# Altium integrated library s7cas_lib2023.intlib: 111 symbols (part 2 of 2)
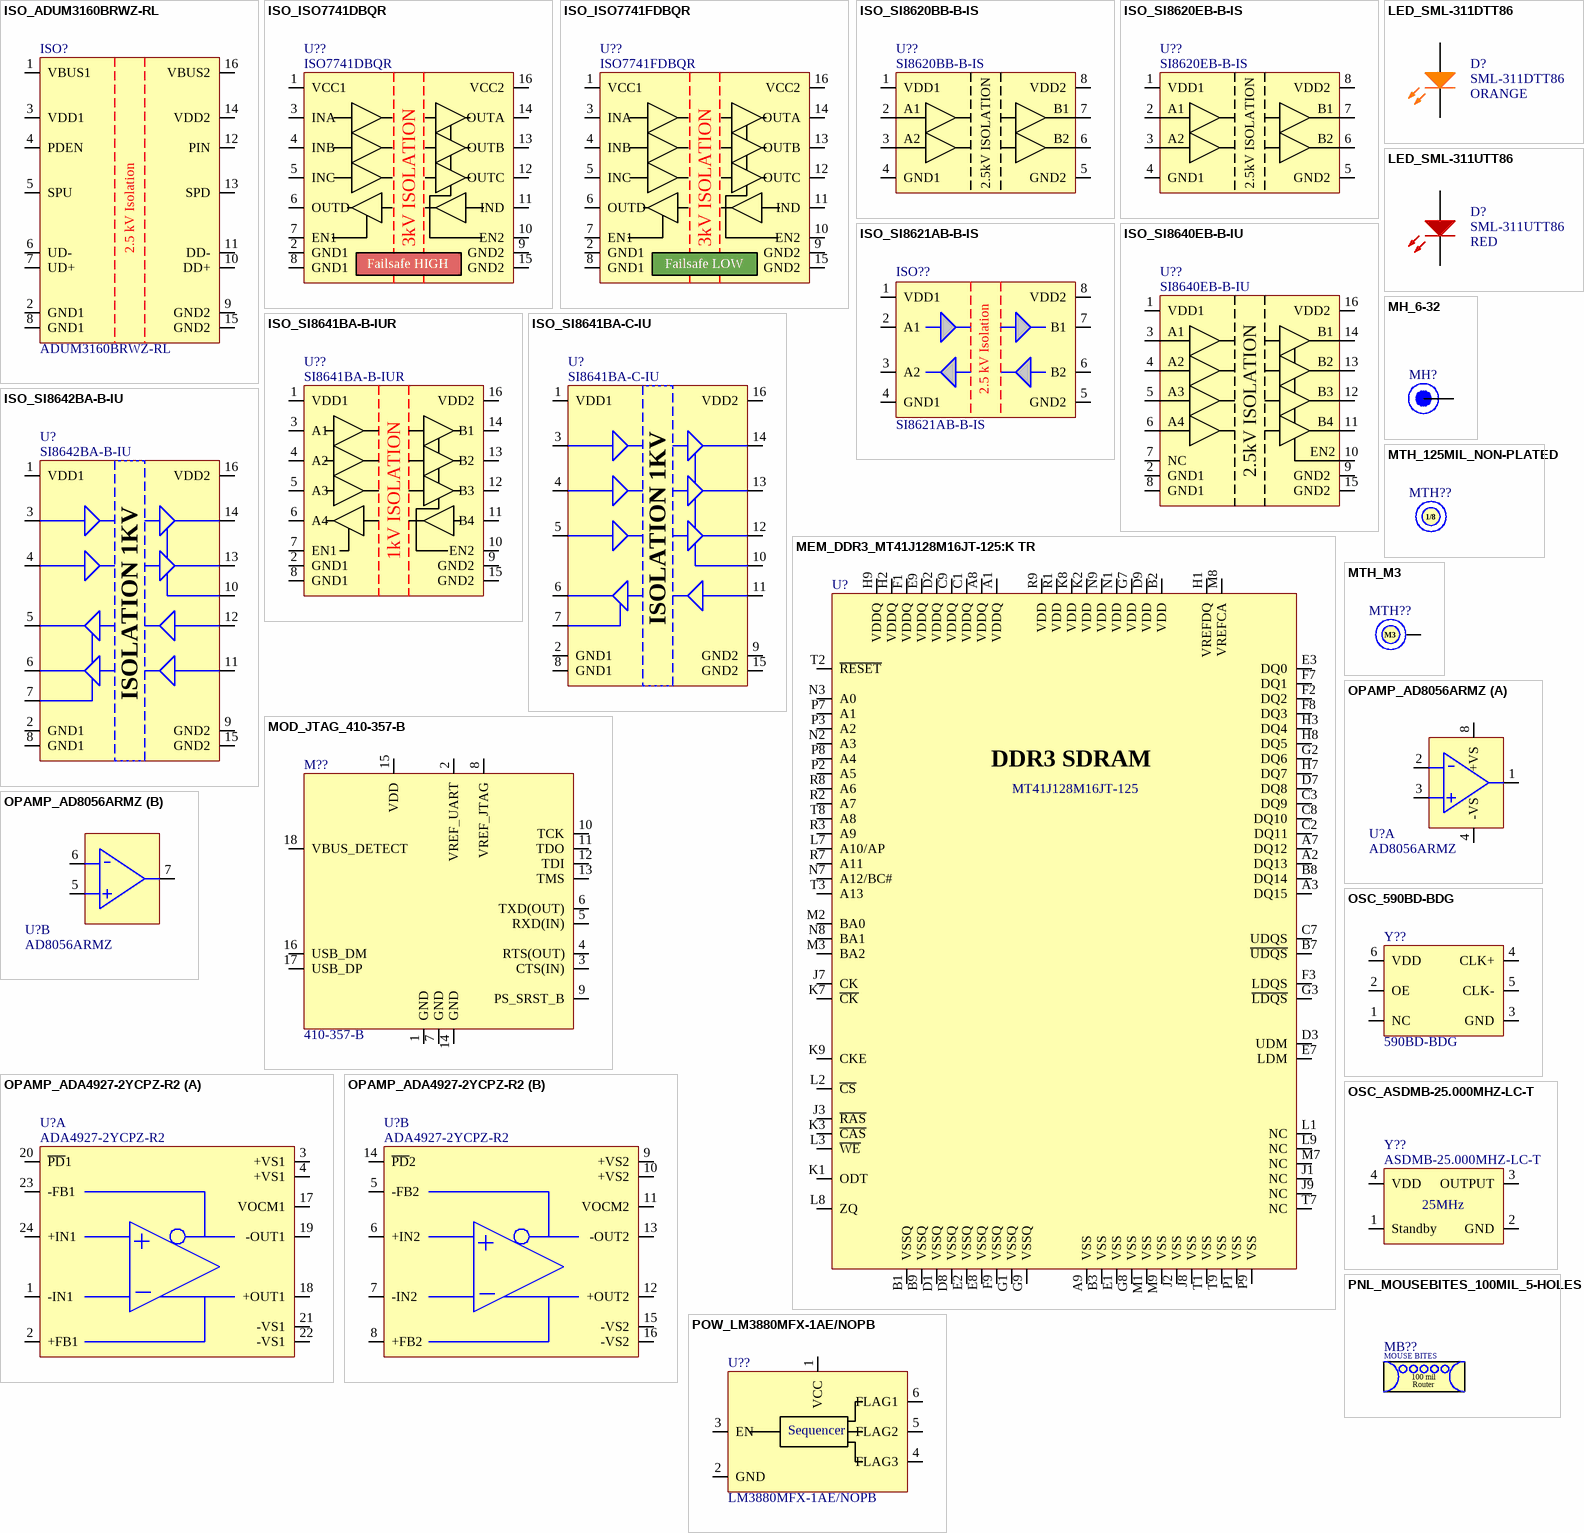
[diagram p6: symbols ISO_ADUM3160BRWZ-RL to POW_LM3880MFX-1AE/NOPB]

## MTH_M3
designator MTH??, comment M3  (no BOM)
MTH - MOUNTING HOLE M3 PLATED - M3; GRAMS Lib Spec: 2.8; Magnetic Material: NO; Cryo: UNKNOWN; Value: *; Tolerance: *; Voltage Rating: *; Current Rating: *; Power Max: *; HelpURL: https://littlemachineshop.com/images/gallery/PDF/TapDrillSizes.pdf; CreatedBy/Date: Jonathan Bouchard 2018-07-23; VerifiedBy: Arnaud Samson 23-07-18; Temperature: *; Package: M3; Manufacturer #1: *; Manufacturer #2: *; Note: *; Assembly Type: NONE; Part Number #2: *; Part Number #1: *; Polarized: *; Supplier 1: *; Supplier Part Number 1: *
footprint MTH_M3 (Mounting Hole Metric M3)
pins: 1

## OPAMP_AD8056ARMZ
designator U?, comment AD8056ARMZ
OPAMP - VFB 300MHZ - 8MSOP; Voltage: 8 V ~ 12 V, ±4 V ~ 6 V; Current: 60mA; Mfg: Analog Devices; Power: *; Mfg Part Number: AD8056ARMZ; HelpURL: http://www.analog.com/media/en/technical-documentation/data-sheets/AD8055_8056.pdf; CreatedBy: Jonathan Bouchard; Temperature: -40°C ~ 125°C; Value: *; Precision: *; Package: MSOP-8; Supplier 1: Digikey; Supplier Part Number 1: AD8056ARMZ-REEL7CT-ND
footprint OPAMP_AD8056ARMZ (SOP, 8-Leads, Body 3x3mm, Pitch 0.65mm, IPC Medium Density)
part A pins: 1 OUT1, 2 -IN1, 3 +IN1, 4 -VS, 8 +VS
part B pins: 5 +IN2, 6 -IN2, 7 OUT2

## OPAMP_ADA4927-2YCPZ-R2
designator U?, comment ADA4927-2YCPZ-R2
OPAMP - CFA 2.3GHZ - QFN-24; Voltage: 4.5 V ~ 11 V, ±2.25 V ~ 5.5 V; Current: 65mA; Mfg: Analog Devices; Power: *; Mfg Part Number: ADA4927-2YCPZ-R2; HelpURL: http://www.analog.com/media/en/technical-documentation/data-sheets/ADA4927-1_4927-2.pdf; CreatedBy: Jonathan Bouchard; Temperature: -40°C ~ 105°C; Value: *; Precision: *; Package: QFN-24; Supplier 1: Digikey; Supplier Part Number 1: ADA4927-2YCPZ-R2CT-ND
footprint OPAMP_ADA4927-2YCPZ-R2 (QFN, 24-Leads, Body 4,00x4,00mm, Pitch 0,50mm, Thermal Pad 2,10x2,10mm, IPC Low Density)
part A pins: 1 -IN1, 2 +FB1, 3 +VS1, 4 +VS1, 17 VOCM1, 18 +OUT1, 19 -OUT1, 20 ~{PD}1, 21 -VS1, 22 -VS1, 23 -FB1, 24 +IN1
part B pins: 5 -FB2, 6 +IN2, 7 -IN2, 8 +FB2, 9 +VS2, 10 +VS2, 11 VOCM2, 12 +OUT2, 13 -OUT2, 14 ~{PD}2, 15 -VS2, 16 -VS2

## OSC_590BD-BDG
designator Y??, comment 590BD-BDG
TIM - OSC PROG 125MHz ~ 214.999MHz LVDS 3.3V 7PPM EN/DS - 6-SMD; Manufacturer #1: Silicon Labs; Current Rating: 100 mA (supply); Note: Spécifié la fréquence lors de la commande; Voltage rating: 3.3V (supply); Polarized: Yes; Value: ±7ppm (freq Stability), ±20ppm (freq stability total); Magnetic Material: UNKNOWN; GRAMS Lib Spec: 2.8; Manufacturer #2: *; Power Max: *; Part Number #1: 590BD-BDG; Part Number #2: *; HelpURL: https://www.silabs.com/documents/public/data-sheets/Si590-591.pdf; Supplier 1: Digi-Key; Supplier Part Number 1: 590BD-BDG-ND; Assembly Type: SMD; Temperature: -40°C ~ 85°C; Package: 6-SMD; CreatedBy/Date: from 590BD-CDG; Tolerance: *; VerifiedBy: Caroline Paulin / 3/10/2019; Cryo: UNKNOWN
footprint OSC_590BD-BDG (5x7mm)
pins: 1 NC, 2 OE, 3 GND, 4 CLK+, 5 CLK-, 6 VDD

## OSC_ASDMB-25.000MHZ-LC-T
designator Y??, comment ASDMB-25.000MHZ-LC-T
OSC - 25MHz XO (Standard) LVCMOS - 4-SMD, No Lead; Manufacturer #1: Abracon LLC; Tolerance: ±50ppm; Voltage Rating: 1.8V ~ 3.3V; GRAMS Lib Spec: 2.8; Magnetic Material: Unknown; Polarized: Yes; Value: 25MHz; Current Rating: *; Power Max: *; HelpURL: https://abracon.com/Oscillators/ASDMB.pdf; CreatedBy/Date: Joël Lemay 2019-03-29; VerifiedBy: C. Paulin - 29 mai 2019; Temperature: -40°C ~ +85°C; Package: 4-SMD, No Lead; Manufacturer #2: *; Note: *; Assembly Type: SMD; Part Number #2: *; Part Number #1: ASDMB-25.000MHZ-LC-T; Supplier 1: Digi-Key; Supplier Part Number 1: 535-11730-1-ND; Cryo: UNKNOWN
footprint OSC_ASDMB-25.000MHZ-LC-T
pins: 1 Standby, 2 GND, 3 OUTPUT, 4 VDD

## PNL_MOUSEBITES_100MIL_5-HOLES
designator MB??, comment MOUSE BITES  (no BOM)
PNL - MOUSE BITES 100 MIL - 5-TH; GRAMS Lib Spec: 2.8; Magnetic Material: NO; Rule: UNIONINDEX=0|RULEKIND=ComponentClearance|NETSCOPE=AnyNet|LAYERKIND=SameLayer|NAME=Schematic Component Clearance Constraint|GAP=0mil|COLLISIONCHECKMODE=3|VERTICALGAP=0mil|SHOWDISTANCES=FALSE|UNIT=Imperial; Rule: UNIONINDEX=0|RULEKIND=PlaneClearance|NETSCOPE=AnyNet|LAYERKIND=SameLayer|NAME=Schematic Power Plane Clearance|CLEARANCE=20mil|UNIT=Imperial; Cryo: UNKNOWN; Value: *; Tolerance: *; Voltage Rating: *; Current Rating: *; Power Max: *; HelpURL: *; CreatedBy/Date: Jonathan Bouchard 2019-04-15; VerifiedBy: Caroline Paulin - 24 mai 2019; Temperature: *; Package: *; Manufacturer #1: *; Manufacturer #2: *; Note: *; Assembly Type: NONE; Part Number #2: *; Part Number #1: *; Polarized: *; Supplier 1: *; Supplier Part Number 1: *
footprint PNL_MOUSEBITES_100MIL_5-HOLES (Mousebites - 100 mils router - 5 holes (30mils))
text: 100 mil; Router

## POW_LM3880MFX-1AE/NOPB
designator U??, comment LM3880MFX-1AE/NOPB
POW - Power Sequencer, Three-Rail Simple Power Sequencer - SOT-23-6; Manufacturer #1: Texas Instruments; Voltage Rating: 2.7V ~ 5.5V; GRAMS Lib Spec: 2.8; Magnetic Material: Unknown; Polarized: Yes; Value: *; Tolerance: *; Current Rating: -; Power Max: *; HelpURL: http://www.ti.com/lit/ds/symlink/lm3880.pdf; CreatedBy/Date: Nicolas Roy - 2018/12/03; VerifiedBy: Caroline Paulin - 14 dec 2018; Temperature: -40°C ~ 125°C; Package: SOT-23-6; Manufacturer #2: *; Assembly Type: SMD; Part Number #2: *; Part Number #1: LM3880MFX-1AE/NOPB; Supplier 1: Digi-Key; Supplier Part Number 1: 296-48921-1-ND; Cryo: UNKNOWN
footprint POW_LM3880MFX-1AE/NOPB
pins: 1 VCC, 2 GND, 3 EN, 4 FLAG3, 5 FLAG2, 6 FLAG1
text: Sequencer

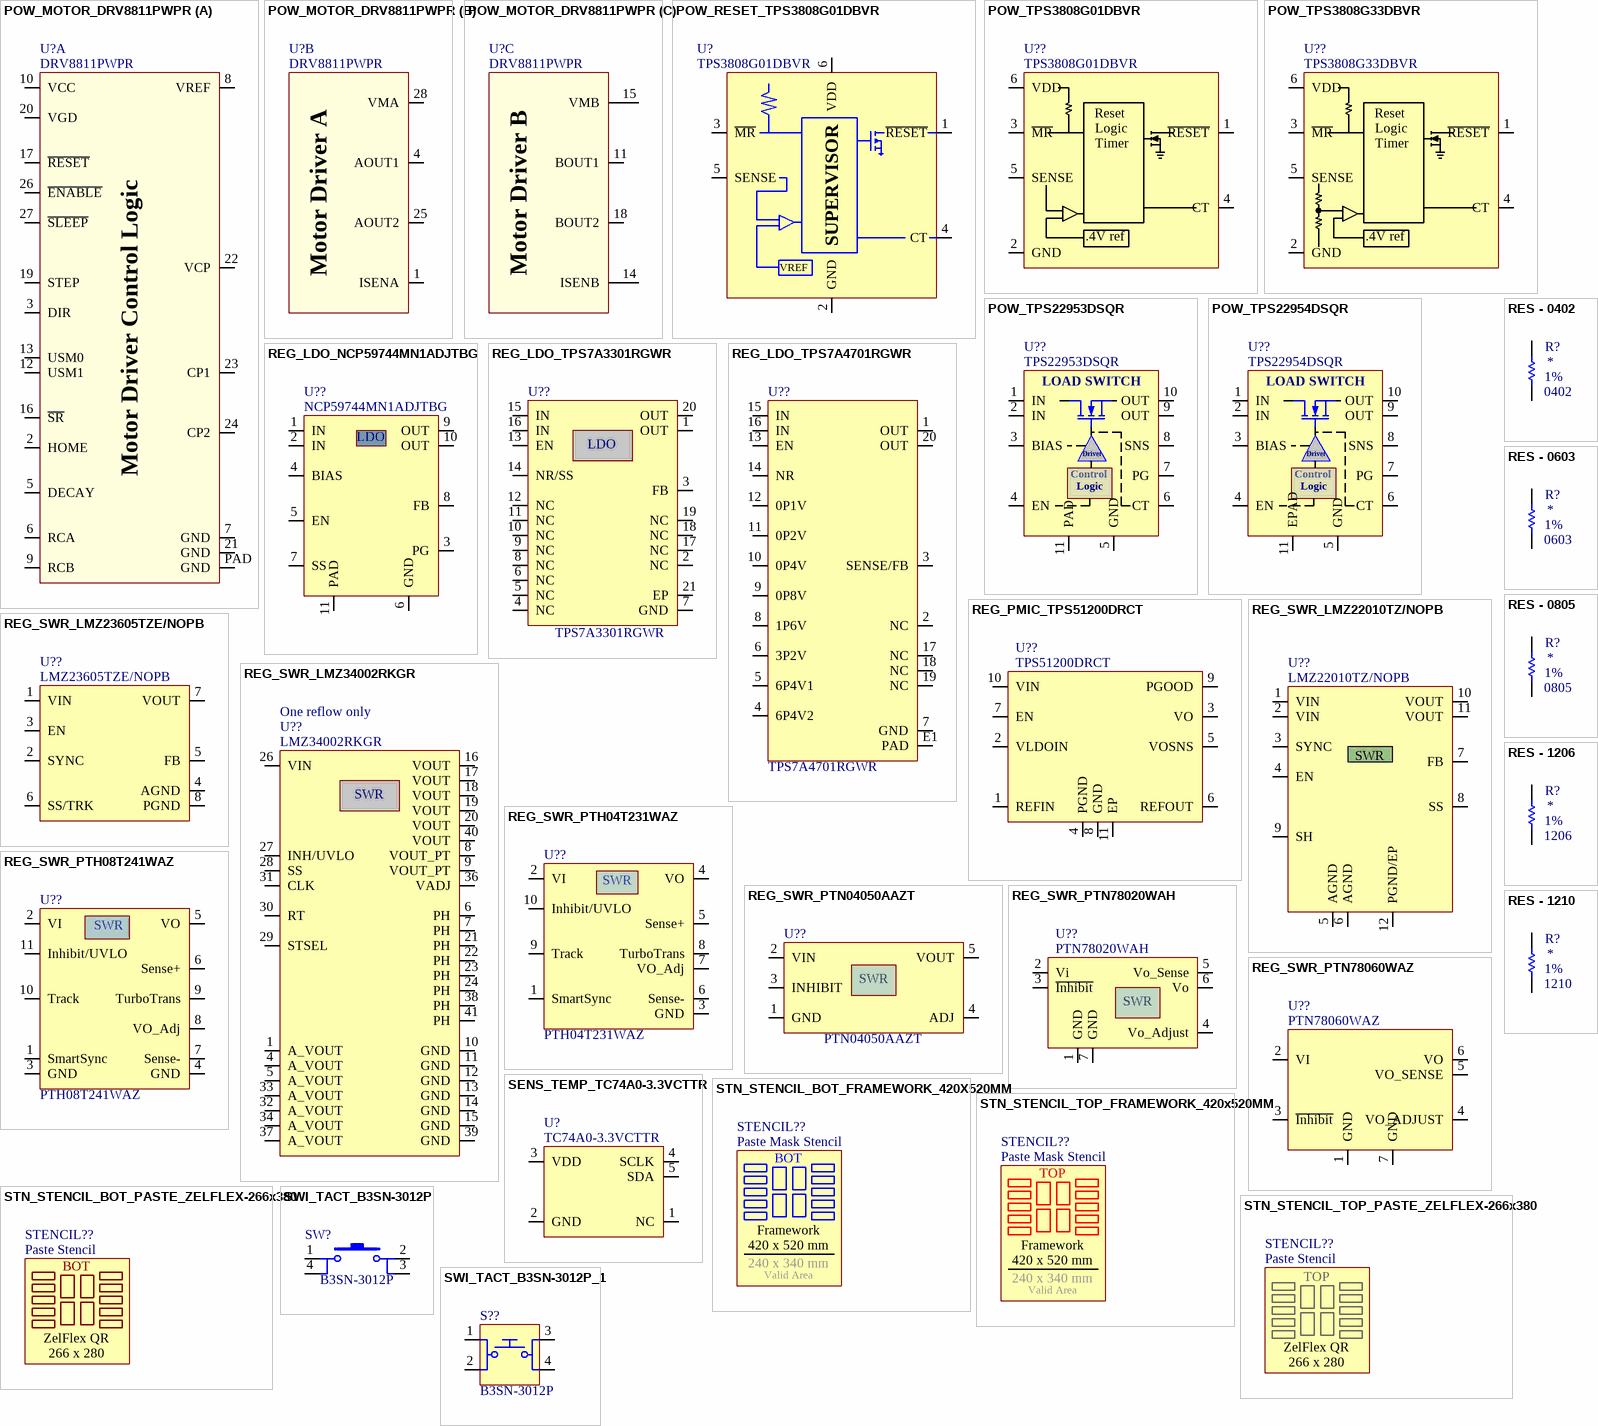
[diagram p4: symbols POW_MOTOR_DRV8811PWPR to SWI_TACT_B3SN-3012P_1]

## POW_MOTOR_DRV8811PWPR
designator U?, comment DRV8811PWPR
POW - STEPPER MOTOR DRIVER - SOP-28; Voltage: 3 V ~ 5.5 V / 8 V ~ 38 V; Mfg: Texas Instrument; Current: *; Power: *; Mfg Part Number: DRV8811PWPR; HelpURL: http://www.ti.com/lit/ds/symlink/drv8811.pdf; CreatedBy: Jonathan Bouchard; Temperature: -40°C ~ 150°C (TJ); Value: *; Precision: *; Package: SOP-28; Supplier 1: Digikey; Supplier Part Number 1: 296-24591-1-ND
footprint POW_MOTOR_DRV8811PWPR (TSOP, 28-Leads, Body 9,70x4,40mm, Pitch 0,65mm, Thermal Pad 9,70x3,40mm, IPC Medium Density)
part A pins: 2 HOME, 3 DIR, 5 DECAY, 6 RCA, 7 GND, 8 VREF, 9 RCB, 10 VCC, 12 USM1, 13 USM0, 16 ~{SR}, 17 ~{RESET}, 19 STEP, 20 VGD, 21 GND, 22 VCP, 23 CP1, 24 CP2, 26 ~{ENABLE}, 27 ~{SLEEP}, PAD GND
part B pins: 1 ISENA, 4 AOUT1, 25 AOUT2, 28 VMA
part C pins: 11 BOUT1, 14 ISENB, 15 VMB, 18 BOUT2
part A text: Motor Driver Control Logic
part B text: Motor Driver A
part C text: Motor Driver B

## POW_RESET_TPS3808G01DBVR
designator U?, comment TPS3808G01DBVR
POW - VOLT SUPERVISOR ADJ - SOT23-6; Mfg: Texas Instruments; Voltage: *; Current: *; Power: *; Mfg Part Number: TPS3808G01DBVR; HelpURL: http://www.ti.com/lit/ds/symlink/tps3808.pdf; CreatedBy: Jonathan Bouchard; Temperature: -40°C ~ 125°C (TJ); Value: *; Precision: *; Package: SOT23-6; Supplier 1: Digikey; Supplier Part Number 1: 296-17188-6-ND
footprint POW_RESET_TPS3808
pins: 1 ~{RESET}, 2 GND, 3 ~{MR}, 4 CT, 5 SENSE, 6 VDD (power)
text: SUPERVISOR; VREF

## POW_TPS3808G01DBVR
designator U??, comment TPS3808G01DBVR
POW - Programmable-Delay  Voltage Supervisory adj - SOT-23-6; Manufacturer #1: Texas Instruments; GRAMS Lib Spec: 2.8; Magnetic Material: Unknown; Polarized: Yes; Value: *; Tolerance: *; Voltage Rating: *; Current Rating: *; Power Max: *; HelpURL: http://www.ti.com/lit/ds/symlink/tps3808.pdf; CreatedBy/Date: Joel Lemay 2018-11-13; VerifiedBy: Caroline Paulin - 22/11/2018; Temperature: -40°C ~ 125°C; Package: SOT-23-6; Manufacturer #2: *; Assembly Type: SMD; Part Number #2: *; Part Number #1: TPS3808G01DBVR; Supplier 1: Digi-Key; Supplier Part Number 1: 296-17188-1-ND; Cryo: UNKNOWN
footprint POW_TPS3808G01DBVR
pins: 1 ~{RESET}, 2 GND, 3 ~{MR}, 4 CT, 5 SENSE, 6 VDD
text: Reset; Logic; Timer; .4V ref

## POW_TPS3808G33DBVR
designator U??, comment TPS3808G33DBVR
POW - Programmable-Delay Supervisory Circuit - SOT-23-6; Manufacturer #1: Texas Instruments; GRAMS Lib Spec: 2.8; Magnetic Material: Unknown; Polarized: Yes; Value: *; Tolerance: *; Voltage Rating: *; Current Rating: *; Power Max: *; HelpURL: http://www.ti.com/lit/ds/symlink/tps3808.pdf; CreatedBy/Date: Joel Lemay 2018-06-08; VerifiedBy: Caroline Paulin - 18 sept 2018; Temperature: -40°C ~ 125°C; Package: SOT-23-6; Manufacturer #2: *; Assembly Type: SMD; Part Number #2: *; Part Number #1: TPS3808G33DBVR; Supplier 1: Digi-Key; Supplier Part Number 1: 296-17195-1-ND; Cryo: UNKNOWN
footprint POW_TPS3808G33DBVR
pins: 1 ~{RESET}, 2 GND, 3 ~{MR}, 4 CT, 5 SENSE, 6 VDD
text: Reset; Logic; Timer; .4V ref

## POW_TPS22953DSQR
designator U??, comment TPS22953DSQR
POW - Power Switch/Driver 1:1 N-Channel 5A - 10-WSON; Manufacturer #1: Texas Instruments; Value: 0.7 V to 5.7 V; GRAMS Lib Spec: 2.8; Magnetic Material: Unknown; Polarized: Yes; Tolerance: -; Voltage Rating: 0.7 V to 5.7 V; Current Rating: 5A; Power Max: -; HelpURL: http://www.ti.com/lit/ds/symlink/tps22953.pdf; CreatedBy/Date: Raphael Bouchard / 2019-06-11; VerifiedBy: Caroline Paulin - 13/06/2019; Temperature: -40°C ~ 105°C (TA); Package: 10-WSON; Manufacturer #2: -; Note: -; Assembly Type: SMD; Part Number #2: -; Part Number #1: TPS22953DSQR; Supplier Part Number 1: 296-48727-1-ND; Supplier 1: Digi-Key; Cryo: UNKNOWN
footprint POW_TPS22953DSQR (Footprint not found)
pins: 1 IN, 2 IN, 3 BIAS, 4 EN, 5 GND, 6 CT, 7 PG, 8 SNS, 9 OUT, 10 OUT, 11 PAD
text: LOAD SWITCH; Driver; Control; Logic

## POW_TPS22954DSQR
designator U??, comment TPS22954DSQR
POW - Power Switch/Driver 1:1 N-Channel 5A Quick Discharge - 10-WSON; Manufacturer #1: Texas Instruments; Value: 0.7 V to 5.7 V; GRAMS Lib Spec: 2.8; Magnetic Material: Unknown; Polarized: Yes; Tolerance: -; Voltage Rating: 0.7 V to 5.7 V; Current Rating: 5A; Power Max: -; HelpURL: http://www.ti.com/lit/ds/symlink/tps22954.pdf; CreatedBy/Date: Raphael Bouchard / 2019-08-02; VerifiedBy: C.Paulin - 15/08/2019; Temperature: -40°C ~ 105°C (TA); Package: 10-WSON; Manufacturer #2: -; Note: -; Assembly Type: SMD; Part Number #2: -; Part Number #1: TPS22954DSQR; Supplier 1: Digi-Key; Supplier Part Number 1: 296-47871-1-ND; Cryo: UNKNOWN
footprint POW_TPS22954DSQR
pins: 1 IN, 2 IN, 3 BIAS, 4 EN, 5 GND, 6 CT, 7 PG, 8 SNS, 9 OUT, 10 OUT, 11 EPAD
text: LOAD SWITCH; Driver; Control; Logic

## REG_LDO_NCP59744MN1ADJTBG
designator U??, comment NCP59744MN1ADJTBG
REG - LINEAR POS ADJ 3A BIAS - 10-VFDFN; Manufacturer #1: ON Semiconductor; Value: 0.8V ~ 3.6V; Voltage Rating: (Vout+VDO) ~ 5.5V; Power Max: 10.8W; GRAMS Lib Spec: 2.8; Magnetic Material: Unknown; Polarized: Yes; Tolerance: -; Current Rating: 3A; HelpURL: https://www.onsemi.com/pub/Collateral/NCP59744-D.PDF; CreatedBy/Date: Raphael Bouchard / 2019-06-07; VerifiedBy: C.Paulin - 13/06/2019; Temperature: -40°C ~ 125°C (TJ); Package: 10-VFDFN; Manufacturer #2: -; Note: -; Assembly Type: SMD; Part Number #2: -; Part Number #1: NCP59744MN1ADJTBG; Supplier 1: Digi-Key; Supplier Part Number 1: NCP59744MN1ADJTBGOSCT-ND; Cryo: UNKNOWN
footprint REG_LDO_NCP59744MN1ADJTBG
pins: 1 IN, 2 IN, 3 PG, 4 BIAS, 5 EN, 6 GND, 7 SS, 8 FB, 9 OUT, 10 OUT, 11 PAD
text: LDO

## REG_LDO_TPS7A3301RGWR
designator U??, comment TPS7A3301RGWR
REG - LDO Negative Adjustable 1 Output -1.18V-33V 1A -  20-VQFN (5x5); Manufacturer #1: Texas Instruments; Value: -1.18V~-33V; Voltage Rating: -36V; GRAMS Lib Spec: 2.8; Magnetic Material: Unknown; Polarized: Yes; Tolerance: *; Current Rating: 1A; Power Max: *; HelpURL: http://www.ti.com/lit/ds/symlink/tps7a33.pdf; CreatedBy/Date: Keven Deslandes - 2018/10/11; VerifiedBy: Caroline Paulin - 11/12/2018; Temperature: -40°C ~ 125°C; Package: 20-VQFN; Manufacturer #2: *; Assembly Type: SMD; Part Number #2: *; Part Number #1: TPS7A3301RGWR; Supplier 1: Digi-Key; Supplier Part Number 1: 296-39502-1-ND; Cryo: UNKNOWN
footprint REG_LDO_TPS7A3301RGWR
pins: 1 OUT, 2 NC, 3 FB, 4 NC, 5 NC, 6 NC, 7 GND, 8 NC, 9 NC, 10 NC, 11 NC, 12 NC, 13 EN, 14 NR/SS, 15 IN, 16 IN, 17 NC, 18 NC, 19 NC, 20 OUT, 21 EP
text: LDO

## REG_LDO_TPS7A4701RGWR
designator U??, comment TPS7A4701RGWR
REG - LINEAR POS ADJ 1A - 20VQFN; Manufacturer #1: Texas Instruments; GRAMS Lib Spec: 2.8; Magnetic Material: Unknown; Polarized: Yes; Value: 1.4 à 34V; Voltage rating: 35V max; Assembly Type: SMD; CreatedBy/Date: L-P Gauthier / 2018-05-29; Current Rating: 1A; Manufacturer #2: TBD; Part Number #1: TPS7A4701RGWR; Part Number #2: TBD; Package: 20-VQFN Exposed Pad; Power Max: *; Tolerance: -; Supplier 1: Digi-Key; Supplier Part Number 1: 296-37224-1-ND; VerifiedBy: Caroline Paulin - 28 sept 2018; Temperature: -40°C ~ 125°C; HelpURL: http://www.ti.com/lit/ds/symlink/tps7a47.pdf; Cryo: UNKNOWN
footprint REG_TPS7A4701RGWR
pins: 1 OUT, 2 NC, 3 SENSE/FB, 4 6P4V2, 5 6P4V1, 6 3P2V, 7 GND, 8 1P6V, 9 0P8V, 10 0P4V, 11 0P2V, 12 0P1V, 13 EN, 14 NR, 15 IN, 16 IN, 17 NC, 18 NC, 19 NC, 20 OUT, E1 PAD

## REG_PMIC_TPS51200DRCT
designator U??, comment TPS51200DRCT
REG - DDR TERMINATION/REF REG - 10-VFDFN; Manufacturer #1: Texas Instruments; Value: DDR, DDR2, DDR3(L), DDR4; Voltage Rating: 2.375V ~ 3.5V; Current Rating: Source: 3A~4.5A, Sink: 3.5A~5.5A; GRAMS Lib Spec: 2.8; Magnetic Material: Unknown; Polarized: Yes; Tolerance: *; Power Max: *; HelpURL: http://www.ti.com/lit/ds/symlink/tps51200.pdf; CreatedBy/Date: Joel Lemay 2019-03-19; VerifiedBy: Nicolas V. (2019-05-31); Temperature: -40°C ~ 85°C; Package: 10-VFDFN; Manufacturer #2: *; Note: *; Assembly Type: SMD; Part Number #2: *; Part Number #1: TPS51200DRCT; Supplier 1: Digi-Key; Supplier Part Number 1: 296-23830-1-ND; Cryo: UNKNOWN
footprint REG_PMIC_TPS51200DRCT (SON, 10-Leads, Body 3,00x3,00mm, Pitch 0,50mm, Thermal Pad 1,58x0,79mm, IPC Medium Density)
pins: 1 REFIN, 2 VLDOIN, 3 VO, 4 PGND, 5 VOSNS, 6 REFOUT, 7 EN, 8 GND, 9 PGOOD, 10 VIN, 11 EP

## REG_SWR_LMZ22010TZ/NOPB
designator U??, comment LMZ22010TZ/NOPB
REG - DC DC Converter 0.8 to 6V 10A - TO-PMOD-11; Manufacturer #1: Texas Instruments; Value: 0.8V~6V; Voltage Rating: 6 - 20V; Power Max: 60W; GRAMS Lib Spec: 2.8c; Magnetic Material: Unknown; Polarized: Yes; Tolerance: *; Current Rating: 10A; HelpURL: http://www.ti.com/lit/ds/symlink/lmz22010.pdf; CreatedBy/Date: P.Marcoux  20-06-2019; VerifiedBy: C.Paulin - 21/01/2020; Temperature: -40°C ~ 125°C; Package: TO-PMOD-11; Manufacturer #2: *; Note: *; Assembly Type: SMD; Part Number #2: *; Part Number #1: LMZ22010TZ/NOPB; Supplier 1: Digi-Key; Supplier Part Number 1: LMZ22010TZ/NOPB-ND; Cryo: UNKNOWN
footprint REG_SWR_LMZ22010TZ/NOPB
pins: 1 VIN, 2 VIN, 3 SYNC, 4 EN, 5 AGND, 6 AGND, 7 FB, 8 SS, 9 SH, 10 VOUT, 11 VOUT, 12 PGND/EP
text: SWR

## REG_SWR_LMZ23605TZE/NOPB
designator U??, comment LMZ23605TZE/NOPB
REG - IC BUCK SYNC 36V 5A - TO-PMOD-7; Manufacturer #1: Texas Instruments; Value: 0.8 ~ 6 V; Voltage Rating: 6 ~ 36 V; GRAMS Lib Spec: 2.8; Note: One Reflow; Magnetic Material: YES; Cryo: UNKNOWN; Tolerance: *; Current Rating: 5A; Power Max: *; HelpURL: http://www.ti.com/lit/ds/symlink/lmz23605.pdf; CreatedBy/Date: Arnaud Samson - 05/07/18; VerifiedBy: Jonathan Bouchard 2018-07-13; Temperature: -40°C ~ 125°C; Package: TO-PMOD-7; Manufacturer #2: *; Assembly Type: SMD; Part Number #2: *; Part Number #1: LMZ23605TZE/NOPB; Polarized: YES; Supplier 1: Digi-Key; Supplier Part Number 1: 296-35357-1-ND
footprint REG_SWR_LMZ23605TZE/NOPB
pins: 1 VIN, 2 SYNC, 3 EN, 4 AGND, 5 FB, 6 SS/TRK, 7 VOUT, 8 PGND

## REG_SWR_LMZ34002RKGR
designator U??, comment LMZ34002RKGR  Assembly Note: One reflow only
REG - DC DC Converter -3V to -17V 2A - 41-B1QFN; Manufacturer #1: Texas Instruments; Value: -3 ~ -17V; Voltage Rating: 4.5-40V; Power Max: 15W; GRAMS Lib Spec: 2.8c; Magnetic Material: Unknown; Polarized: Yes; Tolerance: *; Current Rating: 2A; HelpURL: http://www.ti.com/lit/ds/symlink/lmz34002.pdf; CreatedBy/Date: P.Marcoux  20-06-2019; VerifiedBy: C.Paulin - 22/01/2020; Temperature: -40°C ~ 85°C; Package: 41-B1QFN; Manufacturer #2: *; Note: *; Assembly Type: SMD; Part Number #2: *; Part Number #1: LMZ34002RKGR; Supplier 1: Digi-Key; Supplier Part Number 1: 296-44356-1-ND; Cryo: UNKNOWN
footprint REG_SWR_LMZ34002RKGR
pins: 1 A_VOUT, 2 DNC hidden, 3 DNC hidden, 4 A_VOUT, 5 A_VOUT, 6 PH, 7 PH, 8 VOUT_PT, 9 VOUT_PT, 10 GND, 11 GND, 12 GND, 13 GND, 14 GND, 15 GND, 16 VOUT, 17 VOUT, 18 VOUT, 19 VOUT, 20 VOUT, 21 PH, 22 PH, 23 PH, 24 PH, 25 DNC hidden, 26 VIN, 27 INH/UVLO, 28 SS, 29 STSEL, 30 RT, 31 CLK, 32 A_VOUT, 33 A_VOUT, 34 A_VOUT, 35 DNC hidden, 36 VADJ, 37 A_VOUT, 38 PH, 39 GND, 40 VOUT, 41 PH
text: SWR

## REG_SWR_PTH04T231WAZ
designator U??, comment PTH04T231WAZ
REG - MODULE PIP 6A 2.2V/5.5V - 10SMD; Manufacturer #1: Texas Instruments; Current Rating: 6A (out); Value: 0.69 - 3.6V (Out); Voltage rating: 2.2-5.5V (Input); Polarized: Yes; Magnetic Material: UNKNOWN; Manufacturer #2: *; Note: *; Power Max: *; Part Number #1: PTH04T231WAZ; Part Number #2: *; HelpURL: http://www.ti.com/lit/ds/symlink/pth04t231w.pdf; Supplier 1: Digi-Key; Assembly Type: SMD; Temperature: -40°C ~ 85°C; Supplier Part Number 1: 296-21792-ND; Package: SMD; CreatedBy/Date: Olivier Bernard / 6/5/2018; VerifiedBy: Caroline Paulin / 10 juillet 2018; Cryo: UNKNOWN
footprint REG_SWR_PTH04T231WAZ
pins: 1 SmartSync, 2 VI, 3 GND, 4 VO, 5 Sense+, 6 Sense-, 7 VO_Adj, 8 TurboTrans, 9 Track, 10 Inhibit/UVLO
text: SWR

## REG_SWR_PTH08T241WAZ
designator U??, comment PTH08T241WAZ
REG - MODULE PIP 10A 14VIN - 11-SMD; Manufacturer #1: Texas Instruments; Current Rating: 10A (out); Voltage rating: 4.5-14V (Input), 0.69 - 5.5V (Out); Polarized: Yes; Magnetic Material: UNKNOWN; Manufacturer #2: *; Note: *; Power Max: *; Value: *; Part Number #1: PTH08T241WAZ; Part Number #2: *; HelpURL: http://www.ti.com/lit/ds/symlink/pth08t241w.pdf; Supplier 1: Digi-Key; Supplier Part Number 1: 296-21339-ND; Assembly Type: SMD; Temperature: -40°C ~ 85°C; Package: SMD; CreatedBy/Date: Olivier Bernard / 6/5/2018; VerifiedBy: Caroline Paulin / 10 juillet 2018; Cryo: UNKNOWN
footprint REG_SWR_PTH08T241WAZ
pins: 1 SmartSync, 2 VI, 3 GND, 4 GND, 5 VO, 6 Sense+, 7 Sense-, 8 VO_Adj, 9 TurboTrans, 10 Track, 11 Inhibit/UVLO
text: SWR

## REG_SWR_PTN04050AAZT
designator U??, comment PTN04050AAZT
REG - SWR -15 ~ -3.3V 1A 6W - 5-SMD; Manufacturer #1: Texas Instruments; Voltage Rating: 2.9V~7Vin; GRAMS Lib Spec: 2.8; Magnetic Material: Unknown; Polarized: Yes; Value: -15 ~ -3.3V; Tolerance: *; Current Rating: 1A; Power Max: 6W; HelpURL: http://www.ti.com/lit/ds/symlink/ptn04050a.pdf; CreatedBy/Date: Ihsane Najahi 2019-09-25; VerifiedBy: C.Paulin (9-10-2019); Temperature: -40°C ~ 85°C; Package: 5-SMD; Manufacturer #2: *; Note: *; Assembly Type: 5-SMD; Part Number #2: *; Part Number #1: PTN04050AAZT; Supplier 1: Digi-Key; Supplier Part Number 1: 296-32208-1-ND; Cryo: UNKNOWN
footprint REG_SWR_PTN04050AAZT
pins: 1 GND, 2 VIN, 3 INHIBIT, 4 ADJ, 5 VOUT
text: SWR

## REG_SWR_PTN78020WAH
designator U??, comment PTN78020WAH
REG - DC DC CONVERTER 2.5-12.6V 6A - TH; Manufacturer #1: Texas Instruments; Value: 7V ~ 36V -> 2.5 ~ 12.6V; Voltage Rating: 36V; Power Max: 90 W; GRAMS Lib Spec: 2.8; Magnetic Material: Yes; Cryo: UNKNOWN; Tolerance: -; Current Rating: 6A; HelpURL: http://www.ti.com/lit/ds/symlink/ptn78020h.pdf; CreatedBy/Date: Arnaud_Samson_2019-07-09; VerifiedBy: c.Paulin - 15 juillet 2019; Temperature: -40°C ~ 85°C; Package: TH; Manufacturer #2: -; Assembly Type: TH; Part Number #2: -; Part Number #1: PTN78020WAH; Polarized: Yes; Supplier 1: Digi-Key; Supplier Part Number 1: 296-20515-ND
footprint REG_SWR_PTN78020WAH
pins: 1 GND, 2 Vi, 3 ~{Inhibit}, 4 Vo_Adjust, 5 Vo_Sense, 6 Vo, 7 GND
text: SWR

## REG_SWR_PTN78060WAZ
designator U??, comment PTN78060WAZ
REG - DC-DC Module 2.5V~12.6V ADJ OUT 3A  - 7-SMD; Manufacturer #1: Texas Instruments; Value: 2.5~12.6V (OUT); Tolerance: 3%; Voltage Rating: 7~36V (IN); GRAMS Lib Spec: 2.8; Magnetic Material: Unknown; Polarized: Yes; Current Rating: 3A; Power Max: -; HelpURL: http://www.ti.com/lit/ds/symlink/ptn78060w.pdf; CreatedBy/Date: Danae D-F 28 juin 2019; VerifiedBy: Nicolas V. (2019-07-15); Temperature: -40°C ~ 85°C; Package: 7-SMD; Manufacturer #2: -; Assembly Type: SMD; Part Number #2: -; Part Number #1: PTN78060WAZ; Supplier 1: Digi-Key; Supplier Part Number 1: 296-20525-ND; Cryo: UNKNOWN
footprint REG_SWR_PTN78060WAZ
pins: 1 GND, 2 VI, 3 ~{Inhibit}, 4 VO_ADJUST, 5 VO_SENSE, 6 VO, 7 GND

## RES - 0402
designator R?  Package: 0402  Precision: 1%  (hidden comment: RES - 0402)
Voltage: 50V; Power: 1/16W; Current: *; CreatedBy: Jonathan Bouchard; Value: *
footprint RES_0402
pins: 1, 2

## RES - 0603
designator R?  Package: 0603  Precision: 1%  (hidden comment: RES - 0603)
Current: *; CreatedBy: Jonathan Bouchard; Value: *
footprint RES_0603
pins: 1, 2

## RES - 0805
designator R?  Package: 0805  Precision: 1%  (hidden comment: RES - 0805)
Current: *; CreatedBy: Jonathan Bouchard; Value: *
footprint RES_0805
pins: 1, 2

## RES - 1206
designator R?  Package: 1206  Precision: 1%  (hidden comment: RES - 1206)
Current: *; CreatedBy: Jonathan Bouchard; Value: *
footprint RES_1206
pins: 1, 2

## RES - 1210
designator R?  Package: 1210  Precision: 1%  (hidden comment: RES - 1210)
Power: 1/16W; Current: *; CreatedBy: Jonathan Bouchard; Value: *
footprint RES_1210
pins: 1, 2

## SENS_TEMP_TC74A0-3.3VCTTR
designator U?, comment TC74A0-3.3VCTTR
SENS - TEMPERATURE SENSOR I2C/SMBUS - SOT23-5; Voltage: 2.7 V ~ 5.5 V; Mfg: Microchip; Precision: ±2°C (±3°C); Current: *; Power: *; Mfg Part Number: TC74A0-3.3VCTTR; HelpURL: http://ww1.microchip.com/downloads/en/DeviceDoc/21462D.pdf; CreatedBy: Jonathan Bouchard; Temperature: -40°C ~ 125°C; Value: *; Package: SOT23-5; Supplier 1: Digikey; Supplier Part Number 1: TC74A0-3.3VCTDKR-ND
footprint SEN_TEMP_TC74A0-3.3VCTTR
pins: 1 NC, 2 GND, 3 VDD, 4 SCLK, 5 SDA

## STN_STENCIL_BOT_FRAMEWORK_420X520MM
designator STENCIL??, comment Paste Mask Stencil  (no BOM)
MEC - STENCIL BOTTOM PASTE FRAMEWORK - 420 x 520MM; Value: 240x340 Valid Area; GRAMS Lib Spec: 2.8; Magnetic Material: NO; Cryo: UNKNOWN; Tolerance: *; Voltage Rating: *; Current Rating: *; Power Max: *; HelpURL: *; CreatedBy/Date: Jonathan Bouchard 2020-06-05; VerifiedBy: C.Paulin - 09/06/2020; Temperature: *; Package: *; Manufacturer #1: *; Manufacturer #2: *; Note: *; Assembly Type: NONE; Part Number #2: *; Part Number #1: *; Polarized: *; Supplier 1: PCBWAY; Supplier Part Number 1: 420x520 Framework
footprint STN_STENCIL_BOT_FRAMEWORK_420X520MM (MEC - STENCIL PASTE FRAMEWORK)
text: BOT; Framework; 420 x 520 mm; 240 x 340 mm; Valid Area

## STN_STENCIL_BOT_PASTE_ZELFLEX-266x380
designator STENCIL??, comment Paste Stencil  (no BOM)
MEC - STENCIL BOTTOM PASTE - ZELFLEX 266x380; GRAMS Lib Spec: 2.8; Magnetic Material: NO; Cryo: UNKNOWN; Value: *; Tolerance: *; Voltage Rating: *; Current Rating: *; Power Max: *; HelpURL: *; CreatedBy/Date: Jonathan Bouchard 2018-09-11; VerifiedBy: Arnaud Samson 2018-09-24; Temperature: *; Package: *; Manufacturer #1: *; Manufacturer #2: *; Note: *; Assembly Type: NONE; Part Number #2: *; Part Number #1: *; Polarized: *; Supplier 1: *; Supplier Part Number 1: *
footprint STN_STENCIL_BOT_ZELFLEXQR-266x380 (Paste Mask Stencil BOTTOM - Zelflex 266x380)
text: BOT; ZelFlex QR; 266 x 280

## STN_STENCIL_TOP_FRAMEWORK_420x520MM
designator STENCIL??, comment Paste Mask Stencil  (no BOM)
MEC - STENCIL TOP PASTE FRAMEWORK - 420 x 520 MM; Value: 240x340 Valid Area; GRAMS Lib Spec: 2.8; Magnetic Material: NO; Cryo: UNKNOWN; Tolerance: *; Voltage Rating: *; Current Rating: *; Power Max: *; HelpURL: *; CreatedBy/Date: Jonathan Bouchard 2020-06-05; VerifiedBy: C.Paulin - 09/06/2020; Temperature: *; Package: *; Manufacturer #1: *; Manufacturer #2: *; Note: *; Assembly Type: NONE; Part Number #2: *; Part Number #1: *; Polarized: *; Supplier 1: PCBWAY; Supplier Part Number 1: 420x520 Framework
footprint STN_STENCIL_TOP_FRAMEWORK_420X520MM (MEC - STENCIL PASTE FRAMEWORK)
text: TOP; Framework; 420 x 520 mm; 240 x 340 mm; Valid Area

## STN_STENCIL_TOP_PASTE_ZELFLEX-266x380
designator STENCIL??, comment Paste Stencil  (no BOM)
MEC - STENCIL TOP PASTE - ZELFLEX 266x380; GRAMS Lib Spec: 2.8; Magnetic Material: NO; Cryo: UNKNOWN; Value: *; Tolerance: *; Voltage Rating: *; Current Rating: *; Power Max: *; HelpURL: *; CreatedBy/Date: Jonathan Bouchard 2018-09-11; VerifiedBy: Arnaud Samson 2018-09-24; Temperature: *; Package: *; Manufacturer #1: *; Manufacturer #2: *; Note: *; Assembly Type: NONE; Part Number #2: *; Part Number #1: *; Polarized: *; Supplier 1: *; Supplier Part Number 1: *
footprint STN_STENCIL_TOP_ZELFLEXQR-266x380 (Paste Mask Stencil TOP - Zelflex 266x380)
text: TOP; ZelFlex QR; 266 x 280

## SWI_TACT_B3SN-3012P
designator SW?, comment B3SN-3012P
SWI - TACT SPST-NO 0.05A 24V - 4-SMD; Current: 50mA; Mfg: Omron; Mfg Part Number: B3SN-3012P; HelpURL: http://www.omron.com/ecb/products/pdf/en-b3sn.pdf; CreatedBy: Jonathan Bouchard; Temperature: -25°C ~ 70°C; Power: *; Precision: *; Package: 4-SMD; Value: *; Voltage: 24V; Supplier 1: Digikey; Supplier Part Number 1: SW261CT-ND
footprint SWI_TACT_B3SN-3012P
pins: 1, 2, 3, 4

## SWI_TACT_B3SN-3012P_1
designator S??, comment B3SN-3012P
SWI - SWITCH TACTILE SPST-NO 0.05A 24V -SMD; Manufacturer #1: Omron Electronics Inc-EMC Div; Current Rating: 50mA; Voltage rating: 24VDC; Polarized: No; Magnetic Material: UNKNOWN; GRAMS Lib Spec: 2.8; Manufacturer #2: *; Power Max: *; Value: SPST-NO; Part Number #1: B3SN-3012P; Part Number #2: *; HelpURL: http://omronfs.omron.com/en_US/ecb/products/pdf/en-b3sn.pdf; Supplier 1: Digi-Key; Supplier Part Number 1: SW261CT-ND; Assembly Type: SMD; Temperature: -25°C ~ 70°C; Package: SMD; CreatedBy/Date: Olivier Bernard / 5/12/2017; Tolerance: *; VerifiedBy: Caroline Paulin / 11 juillet 2018; Cryo: UNKNOWN
footprint SWI_TACT_B3SN-3012P
pins: 1, 2, 3, 4

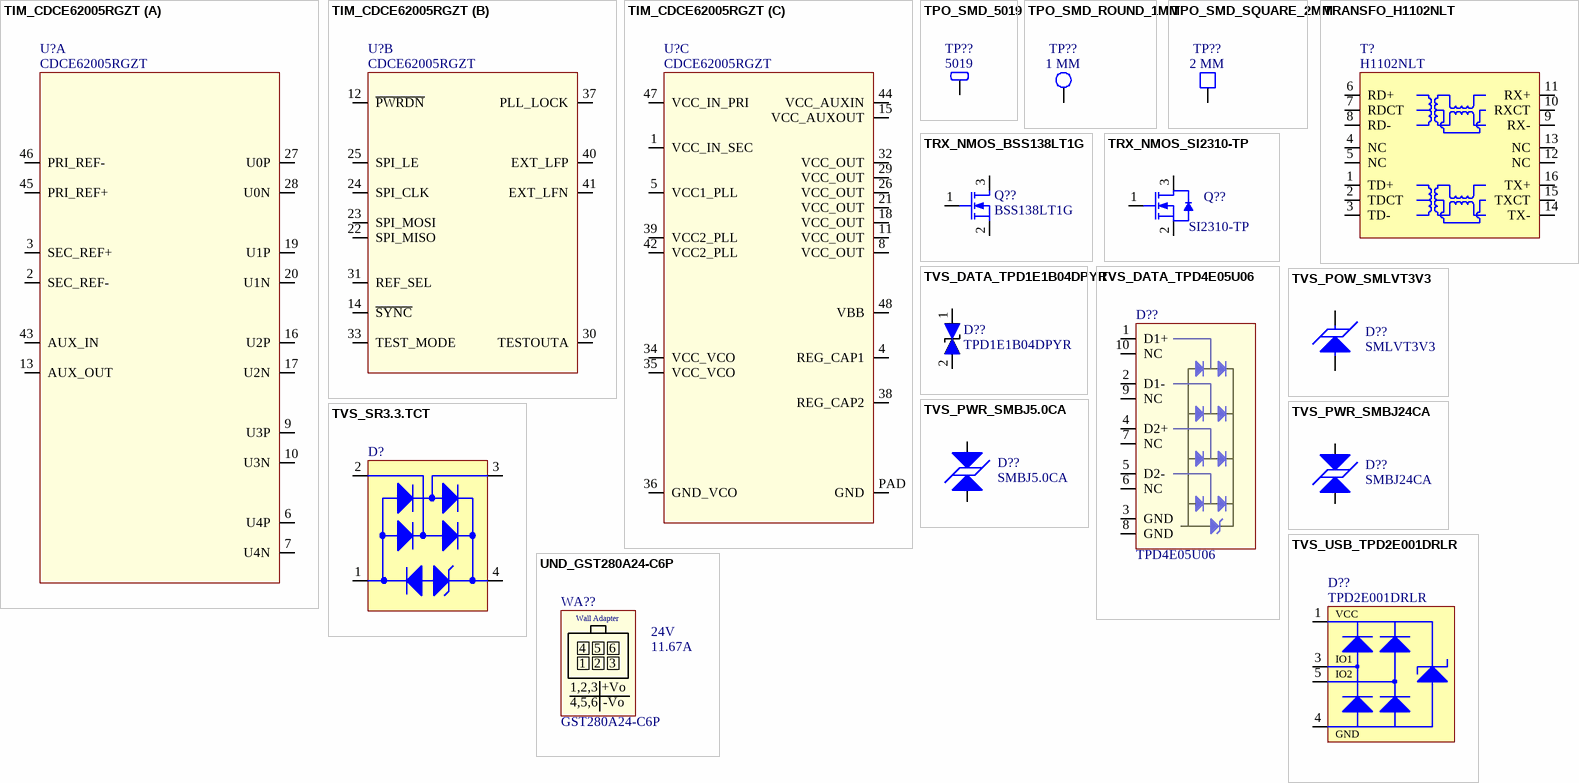
[diagram p5: symbols TIM_CDCE62005RGZT to UND_GST280A24-C6P]

## TIM_CDCE62005RGZT
designator U?, comment CDCE62005RGZT
TIM - CLK SYNTH JITTER CLEANER 3:5 - QFN-48; Voltage: 3 V ~ 3.6 V; Mfg: Texas Instruments; Current: *; Power: *; Mfg Part Number: CDCE62005RGZT; HelpURL: http://www.ti.com/lit/ds/symlink/cdce62005.pdf; CreatedBy: Jonathan Bouchard; Temperature: -40°C ~ 85°C; Value: *; Precision: *; Package: QFN-48; Supplier 1: Digikey; Supplier Part Number 1: 296-23947-1-ND
footprint TIM_CDCE62005RGZT (QFN, 64-Leads, Body 9,00x9,00mm, Pitch 0,50mm, Thermal Pad 7,40x7,40mm, IPC Medium Density)
part A pins: 2 SEC_REF-, 3 SEC_REF+, 6 U4P, 7 U4N, 9 U3P, 10 U3N, 13 AUX_OUT, 16 U2P, 17 U2N, 19 U1P, 20 U1N, 27 U0P, 28 U0N, 43 AUX_IN, 45 PRI_REF+, 46 PRI_REF-
part B pins: 12 ~{PWRDN}, 14 ~{SYNC}, 22 SPI_MISO, 23 SPI_MOSI, 24 SPI_CLK, 25 SPI_LE, 30 TESTOUTA, 31 REF_SEL, 33 TEST_MODE, 37 PLL_LOCK, 40 EXT_LFP, 41 EXT_LFN
part C pins: 1 VCC_IN_SEC, 4 REG_CAP1, 5 VCC1_PLL, 8 VCC_OUT, 11 VCC_OUT, 15 VCC_AUXOUT, 18 VCC_OUT, 21 VCC_OUT, 26 VCC_OUT, 29 VCC_OUT, 32 VCC_OUT, 34 VCC_VCO, 35 VCC_VCO, 36 GND_VCO, 38 REG_CAP2, 39 VCC2_PLL, 42 VCC2_PLL, 44 VCC_AUXIN, 47 VCC_IN_PRI, 48 VBB, PAD GND

## TPO_SMD_5019
designator TP??, comment 5019
TPO - PC TEST POINT MINI - SMD; Manufacturer #1: Keystone Electronics; Value: 3.81mm x 2.03mm; Polarized: No; Magnetic Material: UNKNOWN; GRAMS Lib Spec: 2.8; Current Rating: *; Manufacturer #2: *; Note: *; Power Max: *; Part Number #2: *; HelpURL: https://www.digikey.ca/product-detail/en/keystone-electronics/5019/36-5019CT-ND/3907344; Supplier 1: Digi-Key; Supplier Part Number 1: 36-5019CT-ND; Assembly Type: SMD; Part Number #1: 5019; Package: SMD; CreatedBy/Date: Olivier Bernard / 5/12/2017; Temperature: *; Tolerance: *; VerifiedBy: Caroline Paulin / 5 juillet 2018; Voltage Rating: *; Cryo: UNKNOWN
footprint TPO_SMD_5019 (PC TEST POINT MINI SMD)
pins: 1

## TPO_SMD_ROUND_1MM
designator TP??, comment 1 MM  (no BOM)
TPO - TEST POINT ROUND SMD PAD ONLY  - 1 MM; Magnetic Material: NO; GRAMS Lib Spec: 2.8; Cryo: UNKNOWN; Current Rating: *; Manufacturer #1: *; Manufacturer #2: *; Note: *; Power Max: *; Value: *; Part Number #1: *; Part Number #2: *; HelpURL: *; Polarized: *; Supplier 1: *; Assembly Type: NONE; Supplier Part Number 1: *; Package: 1 MM ROUND; CreatedBy/Date: Jonathan Bouchard 2018-07-17; Temperature: *; Tolerance: *; VerifiedBy: Arnaud Samson 23-07-18; Voltage Rating: *
footprint TPO_SMD_ROUND_1MM (Test Point - SMD ROUND PAD ONLY)
pins: 1

## TPO_SMD_SQUARE_2MM
designator TP??, comment 2 MM  (no BOM)
TPO - TEST POINT SQUARE SMD PAD ONLY  - 2 MM; Magnetic Material: NO; GRAMS Lib Spec: 2.8; Cryo: UNKNOWN; Current Rating: *; Manufacturer #1: *; Manufacturer #2: *; Note: *; Power Max: *; Value: *; Part Number #1: *; Part Number #2: *; HelpURL: *; Polarized: *; Supplier 1: *; Assembly Type: NONE; Supplier Part Number 1: *; Package: 2 MM SQUARE; CreatedBy/Date: Jonathan Bouchard 2018-07-17; Temperature: *; Tolerance: *; VerifiedBy: Arnaud Samson 23-07-18; Voltage Rating: *
footprint TPO_SMD_SQUARE_2MM (Test Point - SMD SQUARE PAD ONLY)
pins: 1

## TRANSFO_H1102NLT
designator T?, comment H1102NLT
TRANSFO - ETHERNET 10/100B-TX - SMD-16; Mfg: Pulse Eng.; Value: 1:1 (350uH); Voltage: *; Current: *; Power: *; Mfg Part Number: H1102NLT; HelpURL: http://media.digikey.com/pdf/Data%20Sheets/Pulse%20PDFs/10_100BASE-T%20Single%20Port%20SMD%20Magnetics_Rev2008.pdf; CreatedBy: Jonathan Bouchard; Temperature: -40°C to 85°C; Precision: *; Package: SMD-16; Supplier 1: Digikey; Supplier Part Number 1: 553-1532-1-ND
footprint TRANSFO_H1102NLT
pins: 1 TD+, 2 TDCT, 3 TD-, 4 NC, 5 NC, 6 RD+, 7 RDCT, 8 RD-, 9 RX-, 10 RXCT, 11 RX+, 12 NC, 13 NC, 14 TX-, 15 TXCT, 16 TX+

## TRX_NMOS_BSS138LT1G
designator Q??, comment BSS138LT1G
TRX - NMOS - 50V 200MA - SOT−23-3; Manufacturer #1: ON Semiconductor; GRAMS Lib Spec: 2.8; Magnetic Material: Unknown; Polarized: Yes; Power Max: 225mW; Assembly Type: SMD; CreatedBy/Date: Joel Lemay 2018-06-15; Current Rating: 200mA; HelpURL: http://www.onsemi.com/pub/Collateral/BSS138LT1-D.PDF; Manufacturer #2: *; Package: SOT-23-3; Part Number #1: BSS138LT1G; Part Number #2: *; Supplier 1: Digi-Key; Supplier Part Number 1: BSS138LT1GOSCT-ND; Temperature: -55°C ~ 150°C; Tolerance: *; Value: *; VerifiedBy: Caroline Paulin - 6 sept 2018; Voltage Rating: 50V; Cryo: UNKNOWN
footprint TRX_NMOS_BSS138LT1G (SOT23, 3-Leads, Body 2,92x2,37mm, Pitch 0,85mm, IPC Medium Density)
pins: 1 G, 2 S, 3 D

## TRX_NMOS_SI2310-TP
designator Q??, comment SI2310-TP
TRX - MOSFET N-CH 60V 3A - SOT-23; Manufacturer #1: Micro Commercial Co; Power Max: 350mW; Voltage rating: 60V (Vds max), 2V (Vgs @ 250uA); Polarized: Yes; Magnetic Material: UNKNOWN; GRAMS Lib Spec: 2.8c; Current Rating: 3A; Manufacturer #2: *; Value: *; Part Number #1: SI2310-TP; Part Number #2: *; HelpURL: https://www.mccsemi.com/pdf/Products/SI2310(SOT-23)-A.pdf; Supplier 1: Digi-Key; Supplier Part Number 1: SI2310-TPMSCT-ND; Assembly Type: SMD; Temperature: -55°C ~ 150°C (TJ); Package: SOT-23; CreatedBy/Date: Louis-Daniel Gaulin / 20-02-2020; Tolerance: *; VerifiedBy: C.Paulin - 21/02/2020; Cryo: UNKNOWN
footprint TRX_NMOS_SI2310-TP
pins: 1 G, 2 S, 3 D

## TVS_DATA_TPD1E1B04DPYR
designator D??, comment TPD1E1B04DPYR
TVS - TVS DIODE 3.6V 8.5V - 0402; Manufacturer #1: Texas Instruments; Current Rating: 6.3Apeak; Power Max: 50Wpeak; GRAMS Lib Spec: 2.8; Magnetic Material: Unknown; Polarized: No; Value: *; Tolerance: *; Voltage Rating: 3.6V; HelpURL: http://www.ti.com/lit/ds/symlink/tpd1e1b04.pdf; CreatedBy/Date: Keven Deslandes - 2018/10/19; VerifiedBy: Caroline Paulin - 28 janv 2019; Temperature: -40°C ~ 125°C (TA); Package: 0402; Manufacturer #2: *; Note: *; Assembly Type: SMD; Part Number #2: *; Part Number #1: TPD1E1B04DPYR; Supplier 1: Digi-Key; Supplier Part Number 1: 296-47364-1-ND; Cryo: UNKNOWN
footprint TVS_DATA_TPD1E1B04DPYR
pins: 1 i/o, 2 i/o

## TVS_DATA_TPD4E05U06
designator D??, comment TPD4E05U06
TVS - TVS DIODE 5.5VWM 14VC - 10SON; Manufacturer #1: Texas Instruments; Part Number #1: TPD4E05U06DQAR; Current Rating: 2.5A (8/20µs); Power Max: 40 W (peak); Value: 4 unidirectionnal channels; Voltage rating: 6V (Breakdown); Polarized: YES; Magnetic Material: UNKNOWN; GRAMS Lib Spec: 2.8; Manufacturer #2: *; Part Number #2: *; HelpURL: http://www.ti.com/lit/ds/symlink/tpd4e05u06.pdf; Supplier 1: Digi-Key; Supplier Part Number 1: 296-35765-1-ND; Note: *; Assembly Type: SMD; Temperature: -40°C ~ 125°C; Package: 10-USON; CreatedBy/Date: Olivier Bernard / 12/3/2018; Tolerance: *; VerifiedBy: Caroline Paulin / 4 juillet 2018; Cryo: UNKNOWN
footprint TVS_DATA_TPD4E05U06 (SON, 10-Leads, Body 2,50x1,00mm, Pitch 0,50mm, IPC Low Density)
pins: 1 D1+, 2 D1-, 3 GND, 4 D2+, 5 D2-, 6 NC, 7 NC, 8 GND, 9 NC, 10 NC

## TVS_POW_SMLVT3V3
designator D??, comment SMLVT3V3
TVS - 3.3V 10.3V 600W - DO214AA; Manufacturer #1: STMicroelectronics; Value: Vbr = 4.1V -  Clamp = 10.3V; Voltage Rating: 3.3V Standoff; Current Rating: 200A (Ifsm); Power Max: 600W (Ppp); GRAMS Lib Spec: 2.8; Magnetic Material: UNKNOWN; Polarized: YES; Tolerance: *; HelpURL: https://www.st.com/content/ccc/resource/technical/document/datasheet/da/a4/86/90/17/13/47/7c/CD00000923.pdf/files/CD00000923.pdf/jcr:content/translations/en.CD00000923.pdf; CreatedBy/Date: Jonathan Bouchard - 2019-04-27; VerifiedBy: Nicolas V. (2019-05-06); Temperature: -55°C ~ 175°C (TJ); Package: DO214AA; Manufacturer #2: *; Note: *; Assembly Type: SMD; Part Number #2: *; Part Number #1: SMLVT3V3; Supplier 1: Digi-Key; Supplier Part Number 1: 497-2496-1-ND; Cryo: UNKNOWN
footprint TVS_POW_SMLVT3V3 (Molded Diode, 2-Leads, Body 4,40x3,62mm, IPC Medium Density)
pins: A, K

## TVS_PWR_SMBJ5.0CA
designator D??, comment SMBJ5.0CA
TVS - BIDIR 5V 9.2V 600W - DO214AA; Manufacturer #1: Littelfuse Inc.; Value: Vbr = 6.4V -  Clamp = 9.2V; Voltage Rating: 5V Standoff; Current Rating: 65.3 A (Ipp); Power Max: 600W (Pppm); GRAMS Lib Spec: 2.8; Magnetic Material: UNKNOWN; Polarized: NO; Tolerance: *; HelpURL: http://www.littelfuse.com/~/media/electronics/datasheets/tvs_diodes/littelfuse_tvs_diode_smbj_datasheet.pdf.pdf; CreatedBy/Date: Jonathan Bouchard - 2019-03-22; VerifiedBy: Nicolas V. (2019-05-06); Temperature: -65°C ~ 150°C (TJ); Package: DO214AA; Manufacturer #2: *; Note: *; Assembly Type: SMD; Part Number #2: *; Part Number #1: SMBJ5.0CA; Supplier 1: Digi-Key; Supplier Part Number 1: SMBJ5.0CALFCT-ND; Cryo: UNKNOWN
footprint TVS_PWR_SMBJ5.0CA (Molded Diode, 2-Leads, Body 4,40x3,62mm, IPC Medium Density)
pins: 1, 2

## TVS_PWR_SMBJ24CA
designator D??, comment SMBJ24CA
TVS - 24V 26.7V 600W - DO214AA; Manufacturer #1: Littelfuse Inc.; Value: Vbr = 26.7V -  Clamp = 38.9V; Voltage Rating: 24V Standoff; Current Rating: 15.5A; GRAMS Lib Spec: 2.8; Magnetic Material: UNKNOWN; Polarized: NO; Tolerance: *; Power Max: 600W; HelpURL: http://www.littelfuse.com/~/media/electronics/datasheets/tvs_diodes/littelfuse_tvs_diode_smbj_datasheet.pdf.pdf; CreatedBy/Date: Arnaud Samson - 06/07/18; VerifiedBy: Jonathan Bouchard - 2018-07-13; Temperature: -65°C ~ 150°C (TJ); Package: DO214AA; Manufacturer #2: *; Note: *; Assembly Type: SMD; Part Number #2: *; Part Number #1: SMBJ24CA; Supplier 1: Digi-Key; Supplier Part Number 1: SMBJ24CALFCT-ND; Cryo: UNKNOWN
footprint TVS_PWR_SMBJ36CA (Molded Diode, 2-Leads, Body 4,40x3,62mm, IPC Medium Density)
pins: 1, 2

## TVS_SR3.3.TCT
designator D?, comment SR3.3.TCT  (value not drawn)
TVS - DIODE ARRAY 3.3V 150W - SOT143-4; Mfg: Semtech; Voltage: VBR=3.3V; Current: *; Mfg Part Number: SR3.3.TCT; HelpURL: http://www.semtech.com/images/datasheet/sr3.3.pdf; CreatedBy: Jonathan Bouchard; Temperature: -55°C to 125°C; Power: 150W; Package: SOT143-4; Precision: *; Value: *; Supplier 1: Digikey; Supplier Part Number 1: SR3.3DKR-ND
footprint TVS_SR3.3.TCT (SOT143, 4-Leads, Body 3,0x2,6mm (max), Pitch 1,92mm, IPC Medium Density)
pins: 1 I/O, 2 VN, 3, 4

## TVS_USB_TPD2E001DRLR
designator D??, comment TPD2E001DRLR
TVS - USB TVS DIODE 5.5V - SOT-553; Manufacturer #1: Texas Instruments; Value: 11V Breakdown; Voltage Rating: 5.5V (Max); GRAMS Lib Spec: 2.8; Magnetic Material: YES; Cryo: UNKNOWN; Tolerance: *; Current Rating: *; Power Max: *; HelpURL: http://www.ti.com/lit/ds/symlink/tpd2e001.pdf; CreatedBy/Date: Jonathan Bouchard 2018-07-10; VerifiedBy: Arnaud Samson 16-07-18; Temperature: -40°C ~ 85°C (TA); Package: SOT-553; Manufacturer #2: *; Note: *; Assembly Type: SMD; Part Number #2: *; Part Number #1: TPD2E001DRLR; Polarized: YES; Supplier 1: Digi-Key; Supplier Part Number 1: 296-21883-1-ND
footprint TVS_USB_TPD2E001DRLR (SOT23, 5-Leads, Body 1,60x1,60mm, Pitch 0,50mm, IPC Medium Density)
pins: 1 VCC, 2 NC hidden, 3 IO1, 4 GND, 5 IO2

## UND_GST280A24-C6P
designator WA??, comment GST280A24-C6P  value 24V  Current Rating: 11.67A  (mechanical)
UND - AC/DC DESKTOP ADAPTER 24V 280W - MEC; Manufacturer #1: MEAN WELL USA Inc.; Tolerance: ±3%; Voltage Rating: 85~264VAC; GRAMS Lib Spec: 2.8; Magnetic Material: Unknown; Polarized: Yes; Power Max: 280W; HelpURL: https://www.meanwell.com/Upload/PDF/GST280A/GST280A-SPEC.PDF; CreatedBy/Date: Caroline Paulin - 5 avril 2019; VerifiedBy: Nicolas V. (2019-07-05); Temperature: -30°C to +70°C; Package: -; Manufacturer #2: *; Note: *; Assembly Type: -; Part Number #2: *; Part Number #1: GST280A24-C6P; Supplier 1: Digi-Key; Supplier Part Number 1: 1866-2122-ND; Cryo: UNKNOWN
footprint Model Name (Footprint not found)
text: Wall Adapter; 4; 5; 6; 1; 2; 3; 1,2,3; +Vo; 4,5,6; -Vo